# EAGLE library part HEADER-11X1 (library Controller)
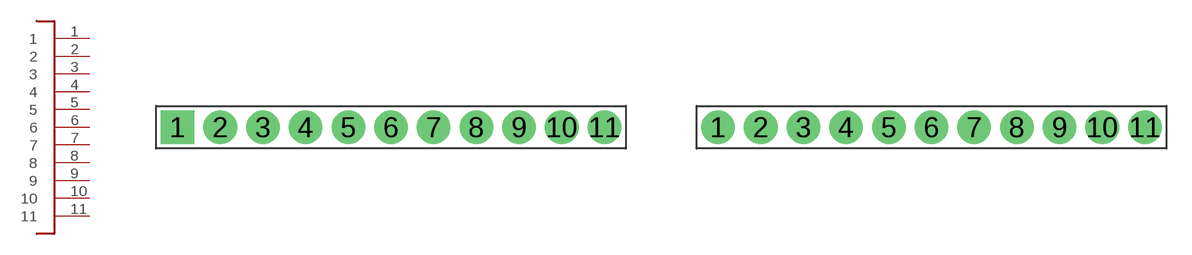
[diagram p23: symbol with the pads of HEADER-11X1-2.54; footprints HEADER-11X1-2.54, HEADER-11X1-2.54-ROUND]

Designator prefix J

## HEADER-11X1-2.54  [HEADER-11X1-2.54]
1  1
2  2
3  3
4  4
5  5
6  6
7  7
8  8
9  9
10  10
11  11

## HEADER-11X1-2.54-ROUND  [HEADER-11X1-2.54-ROUND]
Pads as for HEADER-11X1-2.54

## Footprint HEADER-11X1-2.54 (pad centres in mm)
5 pin 0.1" header
drill 1.05 pad 2 square: 1 -12.7,0
drill 1.05 pad 2: 2 -10.16,0; 3 -7.62,0; 4 -5.08,0; 5 -2.54,0; 6 0,0; 7 2.54,0; 8 5.08,0; 9 7.62,0; 10 10.16,0; 11 12.7,0

## Footprint HEADER-11X1-2.54-ROUND (pad centres in mm)
5 pin 0.1" header
drill 1.05 pad 2: 1 -12.7,0; 2 -10.16,0; 3 -7.62,0; 4 -5.08,0; 5 -2.54,0; 6 0,0; 7 2.54,0; 8 5.08,0; 9 7.62,0; 10 10.16,0; 11 12.7,0